# EAGLE library part BAS70XY (library 1N5822)
Silicon Schottky Diodes General-purpose diode for high-speed switching Source: BAS70_1PS7XSB70_SER_8.pdf
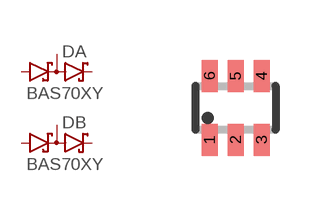
[diagram p5: symbol with the pads of SOT363_PHILIPS; footprint SOT363_PHILIPS]

Designator prefix D; gates A=SDD_AKAK B=SDD_AKAK

## BAS70XY  [SOT363_PHILIPS]
1  A:A1  pas
2  A:C2  pas
3  B:C1A2  pas
4  B:A1  pas
5  B:C2  pas
6  A:C1A2  pas

## Footprint SOT363_PHILIPS (pad centres in mm)
Small Outline Transistor; 6 leads Philips Semiconductors, SOT363.pdf
smd 0.4 x 0.8: 1 -0.65,-0.8; 2 0,-0.8; 3 0.65,-0.8; 4 0.65,0.8; 5 0,0.8; 6 -0.65,0.8